# Altium integrated library Microchip Power Management CPU-System Supervisor.IntLib: 428 symbols (part 9 of 12)
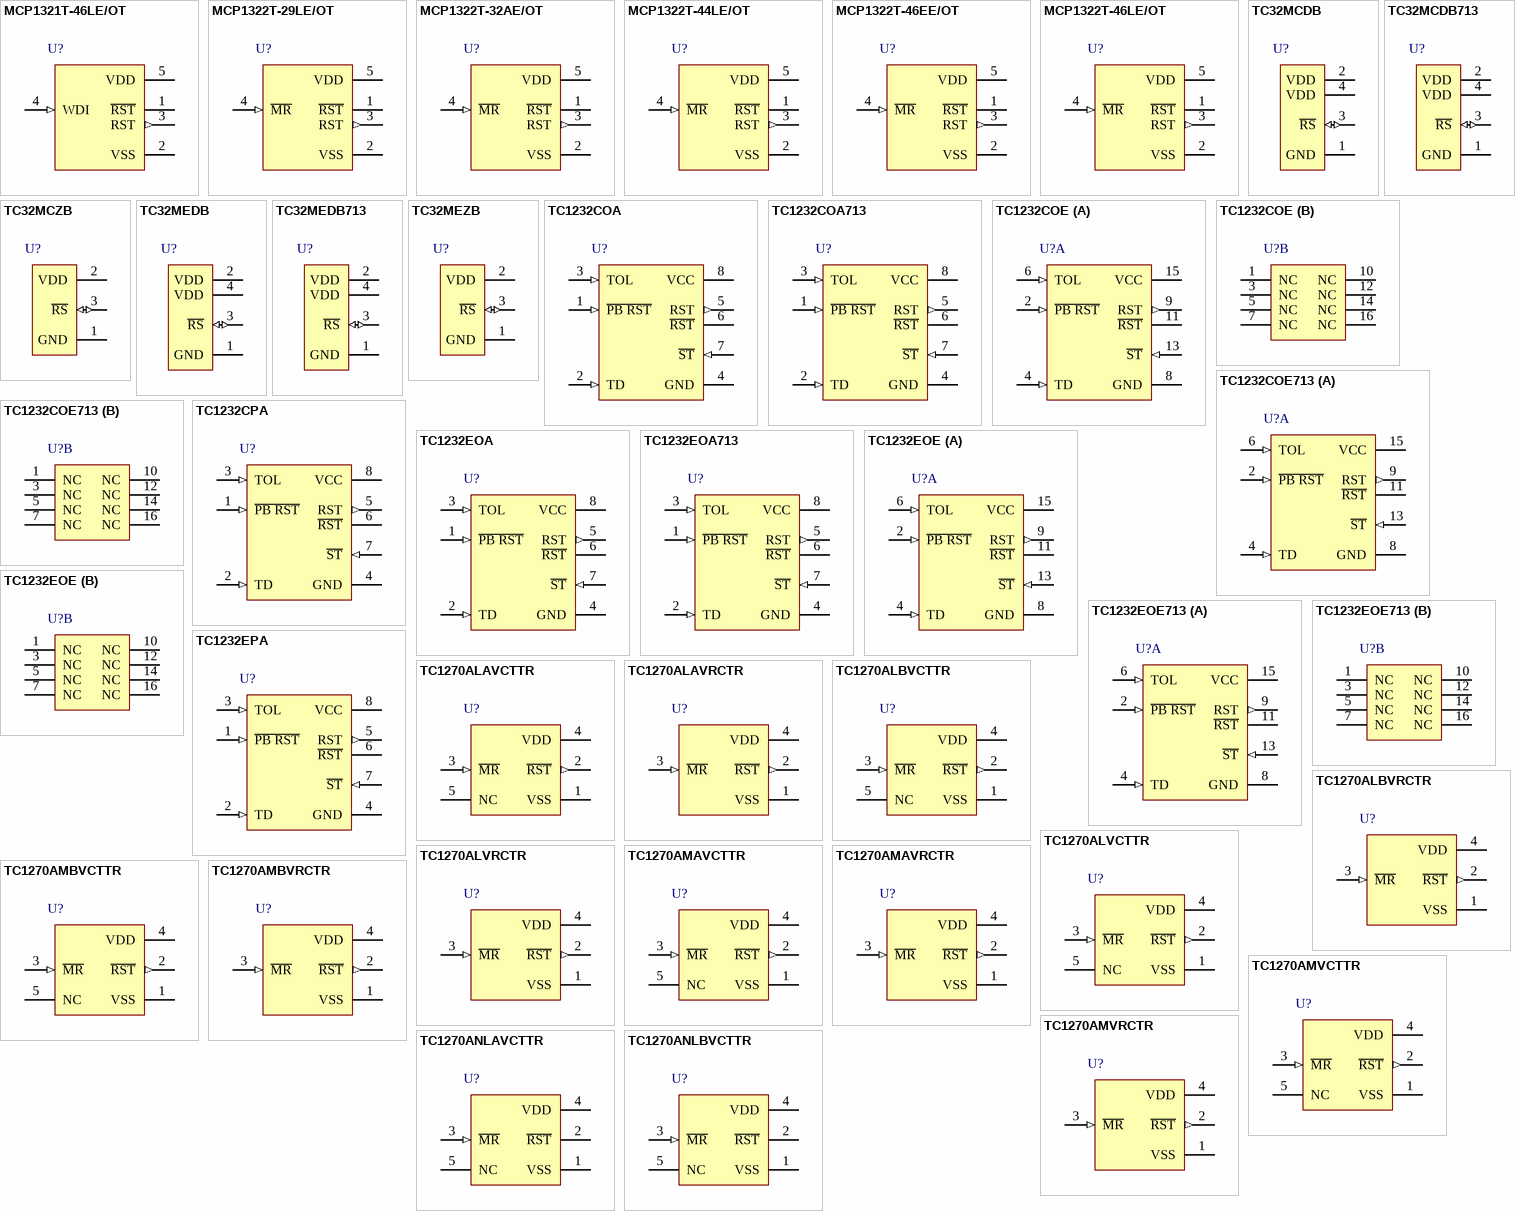
[diagram p18: symbols MCP1321T-46LE/OT to TC1270ANLBVCTTR]

## TC1270ALBVCTTR
designator U?
Voltage Supervisor with Manual Reset Input, 5-Pin SOT-23, VTRIP:4.50V (min.) / 4.63V (typ.) / 4.75V (max.), Tape and Reel; Manufacturer: Microchip; PartNumber: TC1270ALBVCTTR; DatasheetVersion: revB, Jun-2007; PackageVersion: revBB, Aug-2009; PackageReference: SOT-23-CT5; PackageDescription: 5-Lead Plastic Small Outline Transistor (CT) [SOT-23]; Mounting Technology: Surface Mount; Code_IPC: SOT23-5; ComponentLink1Description: Manufacturer URL; ComponentLink1URL: http://www.microchip.com/; ComponentLink2Description: Datasheet; ComponentLink2URL: http://ww1.microchip.com/downloads/en/DeviceDoc/22035b.pdf; ComponentLink3Description: Package Specification; ComponentLink3URL: http://www.microchip.com/stellent/groups/techpub_sg/documents/packagingspec/en012702.pdf
footprint SOT-23-CT5_N (SOT23, 5-Leads, Body 2.9x1.6mm, Pitch 0.95mm, Lead Span 2.7mm, IPC Medium Density)
footprint SOT-23-CT5_L (SOT23, 5-Leads, Body 2.9x1.6mm, Pitch 0.95mm, Lead Span 2.7mm, IPC High Density)
footprint SOT-23-CT5_M (SOT23, 5-Leads, Body 2.9x1.6mm, Pitch 0.95mm, Lead Span 2.7mm, IPC Low Density)
pins: 1 VSS (power), 2 ~{RST} (out), 3 ~{MR} (in), 4 VDD (power), 5 NC

## TC1270ALBVRCTR
designator U?
Voltage Supervisor with Manual Reset Input, 4-Pin SOT-143, VTRIP:4.50V (min.) / 4.63V (typ.) / 4.75V (max.), Tape and Reel; Manufacturer: Microchip; PartNumber: TC1270ALBVRCTR; DatasheetVersion: revB, Jun-2007; PackageVersion: revBB, Aug-2009; PackageReference: SOT-143-RC4; PackageDescription: 4-Lead Plastic Small Outline Transistor (RC) [SOT-143]; Mounting Technology: Surface Mount; Code_IPC: SOT143; ComponentLink1Description: Manufacturer URL; ComponentLink1URL: http://www.microchip.com/; ComponentLink2Description: Datasheet; ComponentLink2URL: http://ww1.microchip.com/downloads/en/DeviceDoc/22035b.pdf; ComponentLink3Description: Package Specification; ComponentLink3URL: http://www.microchip.com/stellent/groups/techpub_sg/documents/packagingspec/en012702.pdf
footprint SOT-143-RC4_N (SOT143, 4-Leads, Body 2.9x1.3mm, Pitch 1.9mm, Lead Span 2.4mm, IPC Medium Density)
footprint SOT-143-RC4_L (SOT143, 4-Leads, Body 2.9x1.3mm, Pitch 1.9mm, Lead Span 2.4mm, IPC High Density)
footprint SOT-143-RC4_M (SOT143, 4-Leads, Body 2.9x1.3mm, Pitch 1.9mm, Lead Span 2.4mm, IPC Low Density)
pins: 1 VSS (power), 2 ~{RST} (out), 3 ~{MR} (in), 4 VDD (power)

## TC1270ALVCTTR
designator U?
Voltage Supervisor with Manual Reset Input, 5-Pin SOT-23, VTRIP:4.50V (min.) / 4.63V (typ.) / 4.75V (max.), Tape and Reel; Manufacturer: Microchip; PartNumber: TC1270ALVCTTR; DatasheetVersion: revB, Jun-2007; PackageVersion: revBB, Aug-2009; PackageReference: SOT-23-CT5; PackageDescription: 5-Lead Plastic Small Outline Transistor (CT) [SOT-23]; Mounting Technology: Surface Mount; Code_IPC: SOT23-5; ComponentLink1Description: Manufacturer URL; ComponentLink1URL: http://www.microchip.com/; ComponentLink2Description: Datasheet; ComponentLink2URL: http://ww1.microchip.com/downloads/en/DeviceDoc/22035b.pdf; ComponentLink3Description: Package Specification; ComponentLink3URL: http://www.microchip.com/stellent/groups/techpub_sg/documents/packagingspec/en012702.pdf
footprint SOT-23-CT5_N (SOT23, 5-Leads, Body 2.9x1.6mm, Pitch 0.95mm, Lead Span 2.7mm, IPC Medium Density)
footprint SOT-23-CT5_L (SOT23, 5-Leads, Body 2.9x1.6mm, Pitch 0.95mm, Lead Span 2.7mm, IPC High Density)
footprint SOT-23-CT5_M (SOT23, 5-Leads, Body 2.9x1.6mm, Pitch 0.95mm, Lead Span 2.7mm, IPC Low Density)
pins: 1 VSS (power), 2 ~{RST} (out), 3 ~{MR} (in), 4 VDD (power), 5 NC

## TC1270ALVRCTR
designator U?
Voltage Supervisor with Manual Reset Input, 4-Pin SOT-143, VTRIP:4.50V (min.) / 4.63V (typ.) / 4.75V (max.), Tape and Reel; Manufacturer: Microchip; PartNumber: TC1270ALVRCTR; DatasheetVersion: revB, Jun-2007; PackageVersion: revBB, Aug-2009; PackageReference: SOT-143-RC4; PackageDescription: 4-Lead Plastic Small Outline Transistor (RC) [SOT-143]; Supplier 1: Digi-Key; Supplier Part Number 1: TC1270ALVRCTR-ND; Supplier 2: Newark; Supplier Part Number 2: 27M0906; Supplier 3: Mouser; Supplier Part Number 3: 579-TC1270ALVRCTR; Mounting Technology: Surface Mount; Code_IPC: SOT143; ComponentLink1Description: Manufacturer URL; ComponentLink1URL: http://www.microchip.com/; ComponentLink2Description: Datasheet; ComponentLink2URL: http://ww1.microchip.com/downloads/en/DeviceDoc/22035b.pdf; ComponentLink3Description: Package Specification; ComponentLink3URL: http://www.microchip.com/stellent/groups/techpub_sg/documents/packagingspec/en012702.pdf
footprint SOT-143-RC4_N (SOT143, 4-Leads, Body 2.9x1.3mm, Pitch 1.9mm, Lead Span 2.4mm, IPC Medium Density)
footprint SOT-143-RC4_L (SOT143, 4-Leads, Body 2.9x1.3mm, Pitch 1.9mm, Lead Span 2.4mm, IPC High Density)
footprint SOT-143-RC4_M (SOT143, 4-Leads, Body 2.9x1.3mm, Pitch 1.9mm, Lead Span 2.4mm, IPC Low Density)
pins: 1 VSS (power), 2 ~{RST} (out), 3 ~{MR} (in), 4 VDD (power)

## TC1270AMAVCTTR
designator U?
Voltage Supervisor with Manual Reset Input, 5-Pin SOT-23, VTRIP:4.25V (min.) / 4.38V (typ.) / 4.50V (max.), Tape and Reel; Manufacturer: Microchip; PartNumber: TC1270AMAVCTTR; DatasheetVersion: revB, Jun-2007; PackageVersion: revBB, Aug-2009; PackageReference: SOT-23-CT5; PackageDescription: 5-Lead Plastic Small Outline Transistor (CT) [SOT-23]; Mounting Technology: Surface Mount; Code_IPC: SOT23-5; ComponentLink1Description: Manufacturer URL; ComponentLink1URL: http://www.microchip.com/; ComponentLink2Description: Datasheet; ComponentLink2URL: http://ww1.microchip.com/downloads/en/DeviceDoc/22035b.pdf; ComponentLink3Description: Package Specification; ComponentLink3URL: http://www.microchip.com/stellent/groups/techpub_sg/documents/packagingspec/en012702.pdf
footprint SOT-23-CT5_N (SOT23, 5-Leads, Body 2.9x1.6mm, Pitch 0.95mm, Lead Span 2.7mm, IPC Medium Density)
footprint SOT-23-CT5_L (SOT23, 5-Leads, Body 2.9x1.6mm, Pitch 0.95mm, Lead Span 2.7mm, IPC High Density)
footprint SOT-23-CT5_M (SOT23, 5-Leads, Body 2.9x1.6mm, Pitch 0.95mm, Lead Span 2.7mm, IPC Low Density)
pins: 1 VSS (power), 2 ~{RST} (out), 3 ~{MR} (in), 4 VDD (power), 5 NC

## TC1270AMAVRCTR
designator U?
Voltage Supervisor with Manual Reset Input, 4-Pin SOT-143, VTRIP:4.25V (min.) / 4.38V (typ.) / 4.50V (max.), Tape and Reel; Manufacturer: Microchip; PartNumber: TC1270AMAVRCTR; DatasheetVersion: revB, Jun-2007; PackageVersion: revBB, Aug-2009; PackageReference: SOT-143-RC4; PackageDescription: 4-Lead Plastic Small Outline Transistor (RC) [SOT-143]; Mounting Technology: Surface Mount; Code_IPC: SOT143; ComponentLink1Description: Manufacturer URL; ComponentLink1URL: http://www.microchip.com/; ComponentLink2Description: Datasheet; ComponentLink2URL: http://ww1.microchip.com/downloads/en/DeviceDoc/22035b.pdf; ComponentLink3Description: Package Specification; ComponentLink3URL: http://www.microchip.com/stellent/groups/techpub_sg/documents/packagingspec/en012702.pdf
footprint SOT-143-RC4_N (SOT143, 4-Leads, Body 2.9x1.3mm, Pitch 1.9mm, Lead Span 2.4mm, IPC Medium Density)
footprint SOT-143-RC4_L (SOT143, 4-Leads, Body 2.9x1.3mm, Pitch 1.9mm, Lead Span 2.4mm, IPC High Density)
footprint SOT-143-RC4_M (SOT143, 4-Leads, Body 2.9x1.3mm, Pitch 1.9mm, Lead Span 2.4mm, IPC Low Density)
pins: 1 VSS (power), 2 ~{RST} (out), 3 ~{MR} (in), 4 VDD (power)

## TC1270AMBVCTTR
designator U?
Voltage Supervisor with Manual Reset Input, 5-Pin SOT-23, VTRIP:4.25V (min.) / 4.38V (typ.) / 4.50V (max.), Tape and Reel; Manufacturer: Microchip; PartNumber: TC1270AMBVCTTR; DatasheetVersion: revB, Jun-2007; PackageVersion: revBB, Aug-2009; PackageReference: SOT-23-CT5; PackageDescription: 5-Lead Plastic Small Outline Transistor (CT) [SOT-23]; Mounting Technology: Surface Mount; Code_IPC: SOT23-5; ComponentLink1Description: Manufacturer URL; ComponentLink1URL: http://www.microchip.com/; ComponentLink2Description: Datasheet; ComponentLink2URL: http://ww1.microchip.com/downloads/en/DeviceDoc/22035b.pdf; ComponentLink3Description: Package Specification; ComponentLink3URL: http://www.microchip.com/stellent/groups/techpub_sg/documents/packagingspec/en012702.pdf
footprint SOT-23-CT5_N (SOT23, 5-Leads, Body 2.9x1.6mm, Pitch 0.95mm, Lead Span 2.7mm, IPC Medium Density)
footprint SOT-23-CT5_L (SOT23, 5-Leads, Body 2.9x1.6mm, Pitch 0.95mm, Lead Span 2.7mm, IPC High Density)
footprint SOT-23-CT5_M (SOT23, 5-Leads, Body 2.9x1.6mm, Pitch 0.95mm, Lead Span 2.7mm, IPC Low Density)
pins: 1 VSS (power), 2 ~{RST} (out), 3 ~{MR} (in), 4 VDD (power), 5 NC

## TC1270AMBVRCTR
designator U?
Voltage Supervisor with Manual Reset Input, 4-Pin SOT-143, VTRIP:4.25V (min.) / 4.38V (typ.) / 4.50V (max.), Tape and Reel; Manufacturer: Microchip; PartNumber: TC1270AMBVRCTR; DatasheetVersion: revB, Jun-2007; PackageVersion: revBB, Aug-2009; PackageReference: SOT-143-RC4; PackageDescription: 4-Lead Plastic Small Outline Transistor (RC) [SOT-143]; Mounting Technology: Surface Mount; Code_IPC: SOT143; ComponentLink1Description: Manufacturer URL; ComponentLink1URL: http://www.microchip.com/; ComponentLink2Description: Datasheet; ComponentLink2URL: http://ww1.microchip.com/downloads/en/DeviceDoc/22035b.pdf; ComponentLink3Description: Package Specification; ComponentLink3URL: http://www.microchip.com/stellent/groups/techpub_sg/documents/packagingspec/en012702.pdf
footprint SOT-143-RC4_N (SOT143, 4-Leads, Body 2.9x1.3mm, Pitch 1.9mm, Lead Span 2.4mm, IPC Medium Density)
footprint SOT-143-RC4_L (SOT143, 4-Leads, Body 2.9x1.3mm, Pitch 1.9mm, Lead Span 2.4mm, IPC High Density)
footprint SOT-143-RC4_M (SOT143, 4-Leads, Body 2.9x1.3mm, Pitch 1.9mm, Lead Span 2.4mm, IPC Low Density)
pins: 1 VSS (power), 2 ~{RST} (out), 3 ~{MR} (in), 4 VDD (power)

## TC1270AMVCTTR
designator U?
Voltage Supervisor with Manual Reset Input, 5-Pin SOT-23, VTRIP:4.25V (min.) / 4.38V (typ.) / 4.50V (max.), Tape and Reel; Manufacturer: Microchip; PartNumber: TC1270AMVCTTR; DatasheetVersion: revB, Jun-2007; PackageVersion: revBB, Aug-2009; PackageReference: SOT-23-CT5; PackageDescription: 5-Lead Plastic Small Outline Transistor (CT) [SOT-23]; Supplier 1: Digi-Key; Supplier Part Number 1: TC1270AMVCTTR-ND; Supplier 2: Mouser; Supplier Part Number 2: 579-TC1270AMVCTTR; Mounting Technology: Surface Mount; Code_IPC: SOT23-5; ComponentLink1Description: Manufacturer URL; ComponentLink1URL: http://www.microchip.com/; ComponentLink2Description: Datasheet; ComponentLink2URL: http://ww1.microchip.com/downloads/en/DeviceDoc/22035b.pdf; ComponentLink3Description: Package Specification; ComponentLink3URL: http://www.microchip.com/stellent/groups/techpub_sg/documents/packagingspec/en012702.pdf
footprint SOT-23-CT5_N (SOT23, 5-Leads, Body 2.9x1.6mm, Pitch 0.95mm, Lead Span 2.7mm, IPC Medium Density)
footprint SOT-23-CT5_L (SOT23, 5-Leads, Body 2.9x1.6mm, Pitch 0.95mm, Lead Span 2.7mm, IPC High Density)
footprint SOT-23-CT5_M (SOT23, 5-Leads, Body 2.9x1.6mm, Pitch 0.95mm, Lead Span 2.7mm, IPC Low Density)
pins: 1 VSS (power), 2 ~{RST} (out), 3 ~{MR} (in), 4 VDD (power), 5 NC

## TC1270AMVRCTR
designator U?
Voltage Supervisor with Manual Reset Input, 4-Pin SOT-143, VTRIP:4.25V (min.) / 4.38V (typ.) / 4.50V (max.), Tape and Reel; Manufacturer: Microchip; PartNumber: TC1270AMVRCTR; DatasheetVersion: revB, Jun-2007; PackageVersion: revBB, Aug-2009; PackageReference: SOT-143-RC4; PackageDescription: 4-Lead Plastic Small Outline Transistor (RC) [SOT-143]; Supplier 1: Digi-Key; Supplier Part Number 1: TC1270AMVRCTR-ND; Supplier 2: Mouser; Supplier Part Number 2: 579-TC1270AMVRCTR; Mounting Technology: Surface Mount; Code_IPC: SOT143; ComponentLink1Description: Manufacturer URL; ComponentLink1URL: http://www.microchip.com/; ComponentLink2Description: Datasheet; ComponentLink2URL: http://ww1.microchip.com/downloads/en/DeviceDoc/22035b.pdf; ComponentLink3Description: Package Specification; ComponentLink3URL: http://www.microchip.com/stellent/groups/techpub_sg/documents/packagingspec/en012702.pdf
footprint SOT-143-RC4_N (SOT143, 4-Leads, Body 2.9x1.3mm, Pitch 1.9mm, Lead Span 2.4mm, IPC Medium Density)
footprint SOT-143-RC4_L (SOT143, 4-Leads, Body 2.9x1.3mm, Pitch 1.9mm, Lead Span 2.4mm, IPC High Density)
footprint SOT-143-RC4_M (SOT143, 4-Leads, Body 2.9x1.3mm, Pitch 1.9mm, Lead Span 2.4mm, IPC Low Density)
pins: 1 VSS (power), 2 ~{RST} (out), 3 ~{MR} (in), 4 VDD (power)

## TC1270ANLAVCTTR
designator U?
Voltage Supervisor with Manual Reset Input, 5-Pin SOT-23, VTRIP:4.50V (min.) / 4.63V (typ.) / 4.75V (max.), Tape and Reel; Manufacturer: Microchip; PartNumber: TC1270ANLAVCTTR; DatasheetVersion: revB, Jun-2007; PackageVersion: revBB, Aug-2009; PackageReference: SOT-23-CT5; PackageDescription: 5-Lead Plastic Small Outline Transistor (CT) [SOT-23]; Mounting Technology: Surface Mount; Code_IPC: SOT23-5; ComponentLink1Description: Manufacturer URL; ComponentLink1URL: http://www.microchip.com/; ComponentLink2Description: Datasheet; ComponentLink2URL: http://ww1.microchip.com/downloads/en/DeviceDoc/22035b.pdf; ComponentLink3Description: Package Specification; ComponentLink3URL: http://www.microchip.com/stellent/groups/techpub_sg/documents/packagingspec/en012702.pdf
footprint SOT-23-CT5_N (SOT23, 5-Leads, Body 2.9x1.6mm, Pitch 0.95mm, Lead Span 2.7mm, IPC Medium Density)
footprint SOT-23-CT5_L (SOT23, 5-Leads, Body 2.9x1.6mm, Pitch 0.95mm, Lead Span 2.7mm, IPC High Density)
footprint SOT-23-CT5_M (SOT23, 5-Leads, Body 2.9x1.6mm, Pitch 0.95mm, Lead Span 2.7mm, IPC Low Density)
pins: 1 VSS (power), 2 ~{RST} (oc), 3 ~{MR} (in), 4 VDD (power), 5 NC

## TC1270ANLBVCTTR
designator U?
Voltage Supervisor with Manual Reset Input, 5-Pin SOT-23, VTRIP:4.50V (min.) / 4.63V (typ.) / 4.75V (max.), Tape and Reel; Manufacturer: Microchip; PartNumber: TC1270ANLBVCTTR; DatasheetVersion: revB, Jun-2007; PackageVersion: revBB, Aug-2009; PackageReference: SOT-23-CT5; PackageDescription: 5-Lead Plastic Small Outline Transistor (CT) [SOT-23]; Mounting Technology: Surface Mount; Code_IPC: SOT23-5; ComponentLink1Description: Manufacturer URL; ComponentLink1URL: http://www.microchip.com/; ComponentLink2Description: Datasheet; ComponentLink2URL: http://ww1.microchip.com/downloads/en/DeviceDoc/22035b.pdf; ComponentLink3Description: Package Specification; ComponentLink3URL: http://www.microchip.com/stellent/groups/techpub_sg/documents/packagingspec/en012702.pdf
footprint SOT-23-CT5_N (SOT23, 5-Leads, Body 2.9x1.6mm, Pitch 0.95mm, Lead Span 2.7mm, IPC Medium Density)
footprint SOT-23-CT5_L (SOT23, 5-Leads, Body 2.9x1.6mm, Pitch 0.95mm, Lead Span 2.7mm, IPC High Density)
footprint SOT-23-CT5_M (SOT23, 5-Leads, Body 2.9x1.6mm, Pitch 0.95mm, Lead Span 2.7mm, IPC Low Density)
pins: 1 VSS (power), 2 ~{RST} (oc), 3 ~{MR} (in), 4 VDD (power), 5 NC

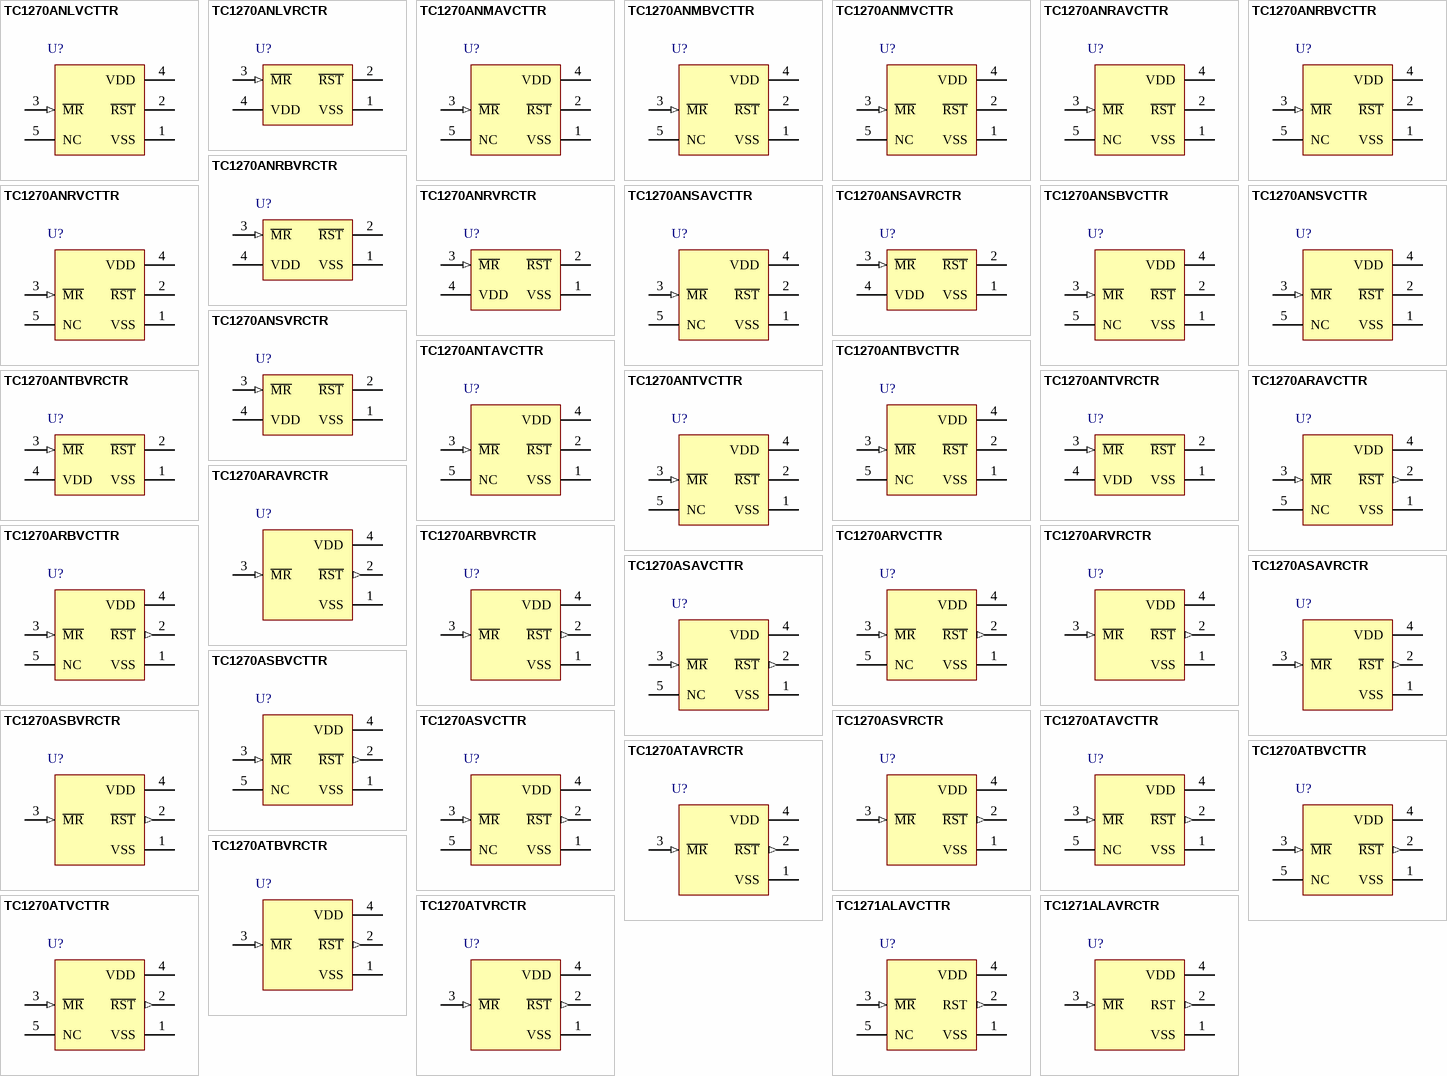
[diagram p8: symbols TC1270ANLVCTTR to TC1271ALAVRCTR]

## TC1270ANLVCTTR
designator U?
Voltage Supervisor with Manual Reset Input, 5-Pin SOT-23, VTRIP:4.50V (min.) / 4.63V (typ.) / 4.75V (max.), Tape and Reel; Manufacturer: Microchip; PartNumber: TC1270ANLVCTTR; DatasheetVersion: revB, Jun-2007; PackageVersion: revBB, Aug-2009; PackageReference: SOT-23-CT5; PackageDescription: 5-Lead Plastic Small Outline Transistor (CT) [SOT-23]; Supplier 1: Digi-Key; Supplier Part Number 1: TC1270ANLVCTTR-ND; Supplier 2: Mouser; Supplier Part Number 2: 579-TC1270ANLVCTTR; Mounting Technology: Surface Mount; Code_IPC: SOT23-5; ComponentLink1Description: Manufacturer URL; ComponentLink1URL: http://www.microchip.com/; ComponentLink2Description: Datasheet; ComponentLink2URL: http://ww1.microchip.com/downloads/en/DeviceDoc/22035b.pdf; ComponentLink3Description: Package Specification; ComponentLink3URL: http://www.microchip.com/stellent/groups/techpub_sg/documents/packagingspec/en012702.pdf
footprint SOT-23-CT5_N (SOT23, 5-Leads, Body 2.9x1.6mm, Pitch 0.95mm, Lead Span 2.7mm, IPC Medium Density)
footprint SOT-23-CT5_L (SOT23, 5-Leads, Body 2.9x1.6mm, Pitch 0.95mm, Lead Span 2.7mm, IPC High Density)
footprint SOT-23-CT5_M (SOT23, 5-Leads, Body 2.9x1.6mm, Pitch 0.95mm, Lead Span 2.7mm, IPC Low Density)
pins: 1 VSS (power), 2 ~{RST} (oc), 3 ~{MR} (in), 4 VDD (power), 5 NC

## TC1270ANLVRCTR
designator U?
Voltage Supervisor with Manual Reset Input, 7 uA Supply Current, Open-Drain Output, 1 to 5.5 V, -40 to 125 degC, 4-pin SOT-143 (RC4), Tape and Reel; Manufacturer: Microchip; PartNumber: TC1270ANLVRCTR; DatasheetVersion: Rev. D; PackageVersion: C04-031B; PackageReference: SOT-143-RC4; PackageDescription: 4-Lead Plastic Small Outline Transistor, 2.86 x 1.3 mm Body, 1.92 mm Pitch; Supplier 1: Digi-Key; Supplier Part Number 1: TC1270ANLVRCTR-ND; Supplier 2: Mouser; Supplier Part Number 2: 579-TC1270ANLVRCTR; Mounting Technology: Surface Mount; ComponentLink1Description: Manufacturer URL; ComponentLink1URL: http://www.microchip.com; ComponentLink2Description: Datasheet; ComponentLink2URL: http://ww1.microchip.com/downloads/en/DeviceDoc/22035D.pdf; ComponentLink3Description: Package Specification; ComponentLink3URL: http://www.microchip.com/stellent/groups/techpub_sg/documents/packagingspec/en012702.pdf; ComponentLink4Description: Product URL; ComponentLink4URL: http://www.microchip.com/TC1270AN
footprint MCHP-SOT-143-RC4_N (SOT143, 4-Leads, Body 2.86x1.3mm, Pitch 1.92mm, IPC Medium Density)
footprint MCHP-SOT-143-RC4_L (SOT143, 4-Leads, Body 2.86x1.3mm, Pitch 1.92mm, IPC High Density)
footprint MCHP-SOT-143-RC4_M (SOT143, 4-Leads, Body 2.86x1.3mm, Pitch 1.92mm, IPC Low Density)
pins: 1 VSS (power) "Ground", 2 ~{RST} (oc) "Reset output (Open-Drain), active-low. Float = VDD > VTRIP, Reset pin is inactive (after Reset Delay Timer completes). L = VDD < VTRIP, Reset pin is active. Goes active (Low) if one of these conditions occurs: 1. If VDD (See Datasheet)", 3 ~{MR} (in) "Manual Reset Input Pin This input allows a push button switch to be directly connected to a TC1270AN device’s M\R\ pin, which can be used to force a system Reset. The input filter ignores noise pulses that occur on the M\R\ (See Datasheet)", 4 VDD (power) "Supply Voltage"

## TC1270ANMAVCTTR
designator U?
Voltage Supervisor with Manual Reset Input, 5-Pin SOT-23, VTRIP:4.25V (min.) / 4.38V (typ.) / 4.50V (max.), Tape and Reel; Manufacturer: Microchip; PartNumber: TC1270ANMAVCTTR; DatasheetVersion: revB, Jun-2007; PackageVersion: revBB, Aug-2009; PackageReference: SOT-23-CT5; PackageDescription: 5-Lead Plastic Small Outline Transistor (CT) [SOT-23]; Mounting Technology: Surface Mount; Code_IPC: SOT23-5; ComponentLink1Description: Manufacturer URL; ComponentLink1URL: http://www.microchip.com/; ComponentLink2Description: Datasheet; ComponentLink2URL: http://ww1.microchip.com/downloads/en/DeviceDoc/22035b.pdf; ComponentLink3Description: Package Specification; ComponentLink3URL: http://www.microchip.com/stellent/groups/techpub_sg/documents/packagingspec/en012702.pdf
footprint SOT-23-CT5_N (SOT23, 5-Leads, Body 2.9x1.6mm, Pitch 0.95mm, Lead Span 2.7mm, IPC Medium Density)
footprint SOT-23-CT5_L (SOT23, 5-Leads, Body 2.9x1.6mm, Pitch 0.95mm, Lead Span 2.7mm, IPC High Density)
footprint SOT-23-CT5_M (SOT23, 5-Leads, Body 2.9x1.6mm, Pitch 0.95mm, Lead Span 2.7mm, IPC Low Density)
pins: 1 VSS (power), 2 ~{RST} (oc), 3 ~{MR} (in), 4 VDD (power), 5 NC

## TC1270ANMBVCTTR
designator U?
Voltage Supervisor with Manual Reset Input, 5-Pin SOT-23, VTRIP:4.25V (min.) / 4.38V (typ.) / 4.50V (max.), Tape and Reel; Manufacturer: Microchip; PartNumber: TC1270ANMBVCTTR; DatasheetVersion: revB, Jun-2007; PackageVersion: revBB, Aug-2009; PackageReference: SOT-23-CT5; PackageDescription: 5-Lead Plastic Small Outline Transistor (CT) [SOT-23]; Mounting Technology: Surface Mount; Code_IPC: SOT23-5; ComponentLink1Description: Manufacturer URL; ComponentLink1URL: http://www.microchip.com/; ComponentLink2Description: Datasheet; ComponentLink2URL: http://ww1.microchip.com/downloads/en/DeviceDoc/22035b.pdf; ComponentLink3Description: Package Specification; ComponentLink3URL: http://www.microchip.com/stellent/groups/techpub_sg/documents/packagingspec/en012702.pdf
footprint SOT-23-CT5_N (SOT23, 5-Leads, Body 2.9x1.6mm, Pitch 0.95mm, Lead Span 2.7mm, IPC Medium Density)
footprint SOT-23-CT5_L (SOT23, 5-Leads, Body 2.9x1.6mm, Pitch 0.95mm, Lead Span 2.7mm, IPC High Density)
footprint SOT-23-CT5_M (SOT23, 5-Leads, Body 2.9x1.6mm, Pitch 0.95mm, Lead Span 2.7mm, IPC Low Density)
pins: 1 VSS (power), 2 ~{RST} (oc), 3 ~{MR} (in), 4 VDD (power), 5 NC

## TC1270ANMVCTTR
designator U?
Voltage Supervisor with Manual Reset Input, 5-Pin SOT-23, VTRIP:4.25V (min.) / 4.38V (typ.) / 4.50V (max.), Tape and Reel; Manufacturer: Microchip; PartNumber: TC1270ANMVCTTR; DatasheetVersion: revB, Jun-2007; PackageVersion: revBB, Aug-2009; PackageReference: SOT-23-CT5; PackageDescription: 5-Lead Plastic Small Outline Transistor (CT) [SOT-23]; Supplier 1: Digi-Key; Supplier Part Number 1: TC1270ANMVCTTR-ND; Supplier 2: Mouser; Supplier Part Number 2: 579-TC1270ANMVCTTR; Mounting Technology: Surface Mount; Code_IPC: SOT23-5; ComponentLink1Description: Manufacturer URL; ComponentLink1URL: http://www.microchip.com/; ComponentLink2Description: Datasheet; ComponentLink2URL: http://ww1.microchip.com/downloads/en/DeviceDoc/22035b.pdf; ComponentLink3Description: Package Specification; ComponentLink3URL: http://www.microchip.com/stellent/groups/techpub_sg/documents/packagingspec/en012702.pdf
footprint SOT-23-CT5_N (SOT23, 5-Leads, Body 2.9x1.6mm, Pitch 0.95mm, Lead Span 2.7mm, IPC Medium Density)
footprint SOT-23-CT5_L (SOT23, 5-Leads, Body 2.9x1.6mm, Pitch 0.95mm, Lead Span 2.7mm, IPC High Density)
footprint SOT-23-CT5_M (SOT23, 5-Leads, Body 2.9x1.6mm, Pitch 0.95mm, Lead Span 2.7mm, IPC Low Density)
pins: 1 VSS (power), 2 ~{RST} (oc), 3 ~{MR} (in), 4 VDD (power), 5 NC

## TC1270ANRAVCTTR
designator U?
Voltage Supervisor with Manual Reset Input, 5-Pin SOT-23, VTRIP:2.55V (min.) / 2.63V (typ.) / 2.70V (max.), Tape and Reel; Manufacturer: Microchip; PartNumber: TC1270ANRAVCTTR; DatasheetVersion: revB, Jun-2007; PackageVersion: revBB, Aug-2009; PackageReference: SOT-23-CT5; PackageDescription: 5-Lead Plastic Small Outline Transistor (CT) [SOT-23]; Mounting Technology: Surface Mount; Code_IPC: SOT23-5; ComponentLink1Description: Manufacturer URL; ComponentLink1URL: http://www.microchip.com/; ComponentLink2Description: Datasheet; ComponentLink2URL: http://ww1.microchip.com/downloads/en/DeviceDoc/22035b.pdf; ComponentLink3Description: Package Specification; ComponentLink3URL: http://www.microchip.com/stellent/groups/techpub_sg/documents/packagingspec/en012702.pdf
footprint SOT-23-CT5_N (SOT23, 5-Leads, Body 2.9x1.6mm, Pitch 0.95mm, Lead Span 2.7mm, IPC Medium Density)
footprint SOT-23-CT5_L (SOT23, 5-Leads, Body 2.9x1.6mm, Pitch 0.95mm, Lead Span 2.7mm, IPC High Density)
footprint SOT-23-CT5_M (SOT23, 5-Leads, Body 2.9x1.6mm, Pitch 0.95mm, Lead Span 2.7mm, IPC Low Density)
pins: 1 VSS (power), 2 ~{RST} (oc), 3 ~{MR} (in), 4 VDD (power), 5 NC

## TC1270ANRBVCTTR
designator U?
Voltage Supervisor with Manual Reset Input, 5-Pin SOT-23, VTRIP:2.55V (min.) / 2.63V (typ.) / 2.70V (max.), Tape and Reel; Manufacturer: Microchip; PartNumber: TC1270ANRBVCTTR; DatasheetVersion: revB, Jun-2007; PackageVersion: revBB, Aug-2009; PackageReference: SOT-23-CT5; PackageDescription: 5-Lead Plastic Small Outline Transistor (CT) [SOT-23]; Mounting Technology: Surface Mount; Code_IPC: SOT23-5; ComponentLink1Description: Manufacturer URL; ComponentLink1URL: http://www.microchip.com/; ComponentLink2Description: Datasheet; ComponentLink2URL: http://ww1.microchip.com/downloads/en/DeviceDoc/22035b.pdf; ComponentLink3Description: Package Specification; ComponentLink3URL: http://www.microchip.com/stellent/groups/techpub_sg/documents/packagingspec/en012702.pdf
footprint SOT-23-CT5_N (SOT23, 5-Leads, Body 2.9x1.6mm, Pitch 0.95mm, Lead Span 2.7mm, IPC Medium Density)
footprint SOT-23-CT5_L (SOT23, 5-Leads, Body 2.9x1.6mm, Pitch 0.95mm, Lead Span 2.7mm, IPC High Density)
footprint SOT-23-CT5_M (SOT23, 5-Leads, Body 2.9x1.6mm, Pitch 0.95mm, Lead Span 2.7mm, IPC Low Density)
pins: 1 VSS (power), 2 ~{RST} (oc), 3 ~{MR} (in), 4 VDD (power), 5 NC

## TC1270ANRBVRCTR
designator U?
Voltage Supervisor with Manual Reset Input, 7 uA Supply Current, Open-Drain Output, 1 to 5.5 V, -40 to 125 degC, 4-pin SOT-143 (RC4), Tape and Reel; Manufacturer: Microchip; PartNumber: TC1270ANRBVRCTR; DatasheetVersion: Rev. D; PackageVersion: C04-031B; PackageReference: SOT-143-RC4; PackageDescription: 4-Lead Plastic Small Outline Transistor, 2.86 x 1.3 mm Body, 1.92 mm Pitch; Mounting Technology: Surface Mount; ComponentLink1Description: Manufacturer URL; ComponentLink1URL: http://www.microchip.com; ComponentLink2Description: Datasheet; ComponentLink2URL: http://ww1.microchip.com/downloads/en/DeviceDoc/22035D.pdf; ComponentLink3Description: Package Specification; ComponentLink3URL: http://www.microchip.com/stellent/groups/techpub_sg/documents/packagingspec/en012702.pdf; ComponentLink4Description: Product URL; ComponentLink4URL: http://www.microchip.com/TC1270AN
footprint MCHP-SOT-143-RC4_N (SOT143, 4-Leads, Body 2.86x1.3mm, Pitch 1.92mm, IPC Medium Density)
footprint MCHP-SOT-143-RC4_L (SOT143, 4-Leads, Body 2.86x1.3mm, Pitch 1.92mm, IPC High Density)
footprint MCHP-SOT-143-RC4_M (SOT143, 4-Leads, Body 2.86x1.3mm, Pitch 1.92mm, IPC Low Density)
pins: 1 VSS (power) "Ground", 2 ~{RST} (oc) "Reset output (Open-Drain), active-low. Float = VDD > VTRIP, Reset pin is inactive (after Reset Delay Timer completes). L = VDD < VTRIP, Reset pin is active. Goes active (Low) if one of these conditions occurs: 1. If VDD (See Datasheet)", 3 ~{MR} (in) "Manual Reset Input Pin This input allows a push button switch to be directly connected to a TC1270AN device’s M\R\ pin, which can be used to force a system Reset. The input filter ignores noise pulses that occur on the M\R\ (See Datasheet)", 4 VDD (power) "Supply Voltage"

## TC1270ANRVCTTR
designator U?
Voltage Supervisor with Manual Reset Input, 5-Pin SOT-23, VTRIP:2.55V (min.) / 2.63V (typ.) / 2.70V (max.), Tape and Reel; Manufacturer: Microchip; PartNumber: TC1270ANRVCTTR; DatasheetVersion: revB, Jun-2007; PackageVersion: revBB, Aug-2009; PackageReference: SOT-23-CT5; PackageDescription: 5-Lead Plastic Small Outline Transistor (CT) [SOT-23]; Supplier 1: Digi-Key; Supplier Part Number 1: TC1270ANRVCTTR-ND; Supplier 2: Mouser; Supplier Part Number 2: 579-TC1270ANRVCTTR; Mounting Technology: Surface Mount; Code_IPC: SOT23-5; ComponentLink1Description: Manufacturer URL; ComponentLink1URL: http://www.microchip.com/; ComponentLink2Description: Datasheet; ComponentLink2URL: http://ww1.microchip.com/downloads/en/DeviceDoc/22035b.pdf; ComponentLink3Description: Package Specification; ComponentLink3URL: http://www.microchip.com/stellent/groups/techpub_sg/documents/packagingspec/en012702.pdf
footprint SOT-23-CT5_N (SOT23, 5-Leads, Body 2.9x1.6mm, Pitch 0.95mm, Lead Span 2.7mm, IPC Medium Density)
footprint SOT-23-CT5_L (SOT23, 5-Leads, Body 2.9x1.6mm, Pitch 0.95mm, Lead Span 2.7mm, IPC High Density)
footprint SOT-23-CT5_M (SOT23, 5-Leads, Body 2.9x1.6mm, Pitch 0.95mm, Lead Span 2.7mm, IPC Low Density)
pins: 1 VSS (power), 2 ~{RST} (oc), 3 ~{MR} (in), 4 VDD (power), 5 NC

## TC1270ANRVRCTR
designator U?
Voltage Supervisor with Manual Reset Input, 7 uA Supply Current, Open-Drain Output, 1 to 5.5 V, -40 to 125 degC, 4-pin SOT-143 (RC4), Tape and Reel; Manufacturer: Microchip; PartNumber: TC1270ANRVRCTR; DatasheetVersion: Rev. D; PackageVersion: C04-031B; PackageReference: SOT-143-RC4; PackageDescription: 4-Lead Plastic Small Outline Transistor, 2.86 x 1.3 mm Body, 1.92 mm Pitch; Supplier 1: Digi-Key; Supplier Part Number 1: TC1270ANRVRCTR-ND; Supplier 2: Mouser; Supplier Part Number 2: 579-TC1270ANRVRCTR; Mounting Technology: Surface Mount; ComponentLink1Description: Manufacturer URL; ComponentLink1URL: http://www.microchip.com; ComponentLink2Description: Datasheet; ComponentLink2URL: http://ww1.microchip.com/downloads/en/DeviceDoc/22035D.pdf; ComponentLink3Description: Package Specification; ComponentLink3URL: http://www.microchip.com/stellent/groups/techpub_sg/documents/packagingspec/en012702.pdf; ComponentLink4Description: Product URL; ComponentLink4URL: http://www.microchip.com/TC1270AN
footprint MCHP-SOT-143-RC4_N (SOT143, 4-Leads, Body 2.86x1.3mm, Pitch 1.92mm, IPC Medium Density)
footprint MCHP-SOT-143-RC4_L (SOT143, 4-Leads, Body 2.86x1.3mm, Pitch 1.92mm, IPC High Density)
footprint MCHP-SOT-143-RC4_M (SOT143, 4-Leads, Body 2.86x1.3mm, Pitch 1.92mm, IPC Low Density)
pins: 1 VSS (power) "Ground", 2 ~{RST} (oc) "Reset output (Open-Drain), active-low. Float = VDD > VTRIP, Reset pin is inactive (after Reset Delay Timer completes). L = VDD < VTRIP, Reset pin is active. Goes active (Low) if one of these conditions occurs: 1. If VDD (See Datasheet)", 3 ~{MR} (in) "Manual Reset Input Pin This input allows a push button switch to be directly connected to a TC1270AN device’s M\R\ pin, which can be used to force a system Reset. The input filter ignores noise pulses that occur on the M\R\ (See Datasheet)", 4 VDD (power) "Supply Voltage"

## TC1270ANSAVCTTR
designator U?
Voltage Supervisor with Manual Reset Input, 5-Pin SOT-23, VTRIP:2.85V (min.) / 2.93V (typ.) / 3.00V (max.), Tape and Reel; Manufacturer: Microchip; PartNumber: TC1270ANSAVCTTR; DatasheetVersion: revB, Jun-2007; PackageVersion: revBB, Aug-2009; PackageReference: SOT-23-CT5; PackageDescription: 5-Lead Plastic Small Outline Transistor (CT) [SOT-23]; Mounting Technology: Surface Mount; Code_IPC: SOT23-5; ComponentLink1Description: Manufacturer URL; ComponentLink1URL: http://www.microchip.com/; ComponentLink2Description: Datasheet; ComponentLink2URL: http://ww1.microchip.com/downloads/en/DeviceDoc/22035b.pdf; ComponentLink3Description: Package Specification; ComponentLink3URL: http://www.microchip.com/stellent/groups/techpub_sg/documents/packagingspec/en012702.pdf
footprint SOT-23-CT5_N (SOT23, 5-Leads, Body 2.9x1.6mm, Pitch 0.95mm, Lead Span 2.7mm, IPC Medium Density)
footprint SOT-23-CT5_L (SOT23, 5-Leads, Body 2.9x1.6mm, Pitch 0.95mm, Lead Span 2.7mm, IPC High Density)
footprint SOT-23-CT5_M (SOT23, 5-Leads, Body 2.9x1.6mm, Pitch 0.95mm, Lead Span 2.7mm, IPC Low Density)
pins: 1 VSS (power), 2 ~{RST} (oc), 3 ~{MR} (in), 4 VDD (power), 5 NC

## TC1270ANSAVRCTR
designator U?
Voltage Supervisor with Manual Reset Input, 7 uA Supply Current, Open-Drain Output, 1 to 5.5 V, -40 to 125 degC, 4-pin SOT-143 (RC4), Tape and Reel; Manufacturer: Microchip; PartNumber: TC1270ANSAVRCTR; DatasheetVersion: Rev. D; PackageVersion: C04-031B; PackageReference: SOT-143-RC4; PackageDescription: 4-Lead Plastic Small Outline Transistor, 2.86 x 1.3 mm Body, 1.92 mm Pitch; Mounting Technology: Surface Mount; ComponentLink1Description: Manufacturer URL; ComponentLink1URL: http://www.microchip.com; ComponentLink2Description: Datasheet; ComponentLink2URL: http://ww1.microchip.com/downloads/en/DeviceDoc/22035D.pdf; ComponentLink3Description: Package Specification; ComponentLink3URL: http://www.microchip.com/stellent/groups/techpub_sg/documents/packagingspec/en012702.pdf; ComponentLink4Description: Product URL; ComponentLink4URL: http://www.microchip.com/TC1270AN
footprint MCHP-SOT-143-RC4_N (SOT143, 4-Leads, Body 2.86x1.3mm, Pitch 1.92mm, IPC Medium Density)
footprint MCHP-SOT-143-RC4_L (SOT143, 4-Leads, Body 2.86x1.3mm, Pitch 1.92mm, IPC High Density)
footprint MCHP-SOT-143-RC4_M (SOT143, 4-Leads, Body 2.86x1.3mm, Pitch 1.92mm, IPC Low Density)
pins: 1 VSS (power) "Ground", 2 ~{RST} (oc) "Reset output (Open-Drain), active-low. Float = VDD > VTRIP, Reset pin is inactive (after Reset Delay Timer completes). L = VDD < VTRIP, Reset pin is active. Goes active (Low) if one of these conditions occurs: 1. If VDD (See Datasheet)", 3 ~{MR} (in) "Manual Reset Input Pin This input allows a push button switch to be directly connected to a TC1270AN device’s M\R\ pin, which can be used to force a system Reset. The input filter ignores noise pulses that occur on the M\R\ (See Datasheet)", 4 VDD (power) "Supply Voltage"

## TC1270ANSBVCTTR
designator U?
Voltage Supervisor with Manual Reset Input, 5-Pin SOT-23, VTRIP:2.85V (min.) / 2.93V (typ.) / 3.00V (max.), Tape and Reel; Manufacturer: Microchip; PartNumber: TC1270ANSBVCTTR; DatasheetVersion: revB, Jun-2007; PackageVersion: revBB, Aug-2009; PackageReference: SOT-23-CT5; PackageDescription: 5-Lead Plastic Small Outline Transistor (CT) [SOT-23]; Mounting Technology: Surface Mount; Code_IPC: SOT23-5; ComponentLink1Description: Manufacturer URL; ComponentLink1URL: http://www.microchip.com/; ComponentLink2Description: Datasheet; ComponentLink2URL: http://ww1.microchip.com/downloads/en/DeviceDoc/22035b.pdf; ComponentLink3Description: Package Specification; ComponentLink3URL: http://www.microchip.com/stellent/groups/techpub_sg/documents/packagingspec/en012702.pdf
footprint SOT-23-CT5_N (SOT23, 5-Leads, Body 2.9x1.6mm, Pitch 0.95mm, Lead Span 2.7mm, IPC Medium Density)
footprint SOT-23-CT5_L (SOT23, 5-Leads, Body 2.9x1.6mm, Pitch 0.95mm, Lead Span 2.7mm, IPC High Density)
footprint SOT-23-CT5_M (SOT23, 5-Leads, Body 2.9x1.6mm, Pitch 0.95mm, Lead Span 2.7mm, IPC Low Density)
pins: 1 VSS (power), 2 ~{RST} (oc), 3 ~{MR} (in), 4 VDD (power), 5 NC

## TC1270ANSVCTTR
designator U?
Voltage Supervisor with Manual Reset Input, 5-Pin SOT-23, VTRIP:2.85V (min.) / 2.93V (typ.) / 3.00V (max.), Tape and Reel; Manufacturer: Microchip; PartNumber: TC1270ANSVCTTR; DatasheetVersion: revB, Jun-2007; PackageVersion: revBB, Aug-2009; PackageReference: SOT-23-CT5; PackageDescription: 5-Lead Plastic Small Outline Transistor (CT) [SOT-23]; Supplier 1: Digi-Key; Supplier Part Number 1: TC1270ANSVCTTR-ND; Supplier 2: Newark; Supplier Part Number 2: 27M0915; Supplier 3: Mouser; Supplier Part Number 3: 579-TC1270ANSVCTTR; Mounting Technology: Surface Mount; Code_IPC: SOT23-5; ComponentLink1Description: Manufacturer URL; ComponentLink1URL: http://www.microchip.com/; ComponentLink2Description: Datasheet; ComponentLink2URL: http://ww1.microchip.com/downloads/en/DeviceDoc/22035b.pdf; ComponentLink3Description: Package Specification; ComponentLink3URL: http://www.microchip.com/stellent/groups/techpub_sg/documents/packagingspec/en012702.pdf
footprint SOT-23-CT5_N (SOT23, 5-Leads, Body 2.9x1.6mm, Pitch 0.95mm, Lead Span 2.7mm, IPC Medium Density)
footprint SOT-23-CT5_L (SOT23, 5-Leads, Body 2.9x1.6mm, Pitch 0.95mm, Lead Span 2.7mm, IPC High Density)
footprint SOT-23-CT5_M (SOT23, 5-Leads, Body 2.9x1.6mm, Pitch 0.95mm, Lead Span 2.7mm, IPC Low Density)
pins: 1 VSS (power), 2 ~{RST} (oc), 3 ~{MR} (in), 4 VDD (power), 5 NC

## TC1270ANSVRCTR
designator U?
Voltage Supervisor with Manual Reset Input, 7 uA Supply Current, Open-Drain Output, 1 to 5.5 V, -40 to 125 degC, 4-pin SOT-143 (RC4), Tape and Reel; Manufacturer: Microchip; PartNumber: TC1270ANSVRCTR; DatasheetVersion: Rev. D; PackageVersion: C04-031B; PackageReference: SOT-143-RC4; PackageDescription: 4-Lead Plastic Small Outline Transistor, 2.86 x 1.3 mm Body, 1.92 mm Pitch; Supplier 1: Digi-Key; Supplier Part Number 1: TC1270ANSVRCTR-ND; Supplier 2: Mouser; Supplier Part Number 2: 579-TC1270ANSVRCTR; Mounting Technology: Surface Mount; ComponentLink1Description: Manufacturer URL; ComponentLink1URL: http://www.microchip.com; ComponentLink2Description: Datasheet; ComponentLink2URL: http://ww1.microchip.com/downloads/en/DeviceDoc/22035D.pdf; ComponentLink3Description: Package Specification; ComponentLink3URL: http://www.microchip.com/stellent/groups/techpub_sg/documents/packagingspec/en012702.pdf; ComponentLink4Description: Product URL; ComponentLink4URL: http://www.microchip.com/TC1270AN
footprint MCHP-SOT-143-RC4_N (SOT143, 4-Leads, Body 2.86x1.3mm, Pitch 1.92mm, IPC Medium Density)
footprint MCHP-SOT-143-RC4_L (SOT143, 4-Leads, Body 2.86x1.3mm, Pitch 1.92mm, IPC High Density)
footprint MCHP-SOT-143-RC4_M (SOT143, 4-Leads, Body 2.86x1.3mm, Pitch 1.92mm, IPC Low Density)
pins: 1 VSS (power) "Ground", 2 ~{RST} (oc) "Reset output (Open-Drain), active-low. Float = VDD > VTRIP, Reset pin is inactive (after Reset Delay Timer completes). L = VDD < VTRIP, Reset pin is active. Goes active (Low) if one of these conditions occurs: 1. If VDD (See Datasheet)", 3 ~{MR} (in) "Manual Reset Input Pin This input allows a push button switch to be directly connected to a TC1270AN device’s M\R\ pin, which can be used to force a system Reset. The input filter ignores noise pulses that occur on the M\R\ (See Datasheet)", 4 VDD (power) "Supply Voltage"

## TC1270ANTAVCTTR
designator U?
Voltage Supervisor with Manual Reset Input, 5-Pin SOT-23, VTRIP:3.00V (min.) / 3.08V (typ.) / 3.15V (max.), Tape and Reel; Manufacturer: Microchip; PartNumber: TC1270ANTAVCTTR; DatasheetVersion: revB, Jun-2007; PackageVersion: revBB, Aug-2009; PackageReference: SOT-23-CT5; PackageDescription: 5-Lead Plastic Small Outline Transistor (CT) [SOT-23]; Mounting Technology: Surface Mount; Code_IPC: SOT23-5; ComponentLink1Description: Manufacturer URL; ComponentLink1URL: http://www.microchip.com/; ComponentLink2Description: Datasheet; ComponentLink2URL: http://ww1.microchip.com/downloads/en/DeviceDoc/22035b.pdf; ComponentLink3Description: Package Specification; ComponentLink3URL: http://www.microchip.com/stellent/groups/techpub_sg/documents/packagingspec/en012702.pdf
footprint SOT-23-CT5_N (SOT23, 5-Leads, Body 2.9x1.6mm, Pitch 0.95mm, Lead Span 2.7mm, IPC Medium Density)
footprint SOT-23-CT5_L (SOT23, 5-Leads, Body 2.9x1.6mm, Pitch 0.95mm, Lead Span 2.7mm, IPC High Density)
footprint SOT-23-CT5_M (SOT23, 5-Leads, Body 2.9x1.6mm, Pitch 0.95mm, Lead Span 2.7mm, IPC Low Density)
pins: 1 VSS (power), 2 ~{RST} (oc), 3 ~{MR} (in), 4 VDD (power), 5 NC

## TC1270ANTBVCTTR
designator U?
Voltage Supervisor with Manual Reset Input, 5-Pin SOT-23, VTRIP:3.00V (min.) / 3.08V (typ.) / 3.15V (max.), Tape and Reel; Manufacturer: Microchip; PartNumber: TC1270ANTBVCTTR; DatasheetVersion: revB, Jun-2007; PackageVersion: revBB, Aug-2009; PackageReference: SOT-23-CT5; PackageDescription: 5-Lead Plastic Small Outline Transistor (CT) [SOT-23]; Mounting Technology: Surface Mount; Code_IPC: SOT23-5; ComponentLink1Description: Manufacturer URL; ComponentLink1URL: http://www.microchip.com/; ComponentLink2Description: Datasheet; ComponentLink2URL: http://ww1.microchip.com/downloads/en/DeviceDoc/22035b.pdf; ComponentLink3Description: Package Specification; ComponentLink3URL: http://www.microchip.com/stellent/groups/techpub_sg/documents/packagingspec/en012702.pdf
footprint SOT-23-CT5_N (SOT23, 5-Leads, Body 2.9x1.6mm, Pitch 0.95mm, Lead Span 2.7mm, IPC Medium Density)
footprint SOT-23-CT5_L (SOT23, 5-Leads, Body 2.9x1.6mm, Pitch 0.95mm, Lead Span 2.7mm, IPC High Density)
footprint SOT-23-CT5_M (SOT23, 5-Leads, Body 2.9x1.6mm, Pitch 0.95mm, Lead Span 2.7mm, IPC Low Density)
pins: 1 VSS (power), 2 ~{RST} (oc), 3 ~{MR} (in), 4 VDD (power), 5 NC

## TC1270ANTBVRCTR
designator U?
Voltage Supervisor with Manual Reset Input, 7 uA Supply Current, Open-Drain Output, 1 to 5.5 V, -40 to 125 degC, 4-pin SOT-143 (RC4), Tape and Reel; Manufacturer: Microchip; PartNumber: TC1270ANTBVRCTR; DatasheetVersion: Rev. D; PackageVersion: C04-031B; PackageReference: SOT-143-RC4; PackageDescription: 4-Lead Plastic Small Outline Transistor, 2.86 x 1.3 mm Body, 1.92 mm Pitch; Mounting Technology: Surface Mount; ComponentLink1Description: Manufacturer URL; ComponentLink1URL: http://www.microchip.com; ComponentLink2Description: Datasheet; ComponentLink2URL: http://ww1.microchip.com/downloads/en/DeviceDoc/22035D.pdf; ComponentLink3Description: Package Specification; ComponentLink3URL: http://www.microchip.com/stellent/groups/techpub_sg/documents/packagingspec/en012702.pdf; ComponentLink4Description: Product URL; ComponentLink4URL: http://www.microchip.com/TC1270AN
footprint MCHP-SOT-143-RC4_N (SOT143, 4-Leads, Body 2.86x1.3mm, Pitch 1.92mm, IPC Medium Density)
footprint MCHP-SOT-143-RC4_L (SOT143, 4-Leads, Body 2.86x1.3mm, Pitch 1.92mm, IPC High Density)
footprint MCHP-SOT-143-RC4_M (SOT143, 4-Leads, Body 2.86x1.3mm, Pitch 1.92mm, IPC Low Density)
pins: 1 VSS (power) "Ground", 2 ~{RST} (oc) "Reset output (Open-Drain), active-low. Float = VDD > VTRIP, Reset pin is inactive (after Reset Delay Timer completes). L = VDD < VTRIP, Reset pin is active. Goes active (Low) if one of these conditions occurs: 1. If VDD (See Datasheet)", 3 ~{MR} (in) "Manual Reset Input Pin This input allows a push button switch to be directly connected to a TC1270AN device’s M\R\ pin, which can be used to force a system Reset. The input filter ignores noise pulses that occur on the M\R\ (See Datasheet)", 4 VDD (power) "Supply Voltage"

## TC1270ANTVCTTR
designator U?
Voltage Supervisor with Manual Reset Input, 5-Pin SOT-23, VTRIP:3.00V (min.) / 3.08V (typ.) / 3.15V (max.), Tape and Reel; Manufacturer: Microchip; PartNumber: TC1270ANTVCTTR; DatasheetVersion: revB, Jun-2007; PackageVersion: revBB, Aug-2009; PackageReference: SOT-23-CT5; PackageDescription: 5-Lead Plastic Small Outline Transistor (CT) [SOT-23]; Supplier 1: Digi-Key; Supplier Part Number 1: TC1270ANTVCTTR-ND; Supplier 2: Mouser; Supplier Part Number 2: 579-TC1270ANTVCTTR; Mounting Technology: Surface Mount; Code_IPC: SOT23-5; ComponentLink1Description: Manufacturer URL; ComponentLink1URL: http://www.microchip.com/; ComponentLink2Description: Datasheet; ComponentLink2URL: http://ww1.microchip.com/downloads/en/DeviceDoc/22035b.pdf; ComponentLink3Description: Package Specification; ComponentLink3URL: http://www.microchip.com/stellent/groups/techpub_sg/documents/packagingspec/en012702.pdf
footprint SOT-23-CT5_N (SOT23, 5-Leads, Body 2.9x1.6mm, Pitch 0.95mm, Lead Span 2.7mm, IPC Medium Density)
footprint SOT-23-CT5_L (SOT23, 5-Leads, Body 2.9x1.6mm, Pitch 0.95mm, Lead Span 2.7mm, IPC High Density)
footprint SOT-23-CT5_M (SOT23, 5-Leads, Body 2.9x1.6mm, Pitch 0.95mm, Lead Span 2.7mm, IPC Low Density)
pins: 1 VSS (power), 2 ~{RST} (oc), 3 ~{MR} (in), 4 VDD (power), 5 NC

## TC1270ANTVRCTR
designator U?
Voltage Supervisor with Manual Reset Input, 7 uA Supply Current, Open-Drain Output, 1 to 5.5 V, -40 to 125 degC, 4-pin SOT-143 (RC4), Tape and Reel; Manufacturer: Microchip; PartNumber: TC1270ANTVRCTR; DatasheetVersion: Rev. D; PackageVersion: C04-031B; PackageReference: SOT-143-RC4; PackageDescription: 4-Lead Plastic Small Outline Transistor, 2.86 x 1.3 mm Body, 1.92 mm Pitch; Supplier 1: Digi-Key; Supplier Part Number 1: TC1270ANTVRCTR-ND; Supplier 2: Mouser; Supplier Part Number 2: 579-TC1270ANTVRCTR; Mounting Technology: Surface Mount; ComponentLink1Description: Manufacturer URL; ComponentLink1URL: http://www.microchip.com; ComponentLink2Description: Datasheet; ComponentLink2URL: http://ww1.microchip.com/downloads/en/DeviceDoc/22035D.pdf; ComponentLink3Description: Package Specification; ComponentLink3URL: http://www.microchip.com/stellent/groups/techpub_sg/documents/packagingspec/en012702.pdf; ComponentLink4Description: Product URL; ComponentLink4URL: http://www.microchip.com/TC1270AN
footprint MCHP-SOT-143-RC4_N (SOT143, 4-Leads, Body 2.86x1.3mm, Pitch 1.92mm, IPC Medium Density)
footprint MCHP-SOT-143-RC4_L (SOT143, 4-Leads, Body 2.86x1.3mm, Pitch 1.92mm, IPC High Density)
footprint MCHP-SOT-143-RC4_M (SOT143, 4-Leads, Body 2.86x1.3mm, Pitch 1.92mm, IPC Low Density)
pins: 1 VSS (power) "Ground", 2 ~{RST} (oc) "Reset output (Open-Drain), active-low. Float = VDD > VTRIP, Reset pin is inactive (after Reset Delay Timer completes). L = VDD < VTRIP, Reset pin is active. Goes active (Low) if one of these conditions occurs: 1. If VDD (See Datasheet)", 3 ~{MR} (in) "Manual Reset Input Pin This input allows a push button switch to be directly connected to a TC1270AN device’s M\R\ pin, which can be used to force a system Reset. The input filter ignores noise pulses that occur on the M\R\ (See Datasheet)", 4 VDD (power) "Supply Voltage"

## TC1270ARAVCTTR
designator U?
Voltage Supervisor with Manual Reset Input, 5-Pin SOT-23, VTRIP:2.55V (min.) / 2.63V (typ.) / 2.70V (max.), Tape and Reel; Manufacturer: Microchip; PartNumber: TC1270ARAVCTTR; DatasheetVersion: revB, Jun-2007; PackageVersion: revBB, Aug-2009; PackageReference: SOT-23-CT5; PackageDescription: 5-Lead Plastic Small Outline Transistor (CT) [SOT-23]; Mounting Technology: Surface Mount; Code_IPC: SOT23-5; ComponentLink1Description: Manufacturer URL; ComponentLink1URL: http://www.microchip.com/; ComponentLink2Description: Datasheet; ComponentLink2URL: http://ww1.microchip.com/downloads/en/DeviceDoc/22035b.pdf; ComponentLink3Description: Package Specification; ComponentLink3URL: http://www.microchip.com/stellent/groups/techpub_sg/documents/packagingspec/en012702.pdf
footprint SOT-23-CT5_N (SOT23, 5-Leads, Body 2.9x1.6mm, Pitch 0.95mm, Lead Span 2.7mm, IPC Medium Density)
footprint SOT-23-CT5_L (SOT23, 5-Leads, Body 2.9x1.6mm, Pitch 0.95mm, Lead Span 2.7mm, IPC High Density)
footprint SOT-23-CT5_M (SOT23, 5-Leads, Body 2.9x1.6mm, Pitch 0.95mm, Lead Span 2.7mm, IPC Low Density)
pins: 1 VSS (power), 2 ~{RST} (out), 3 ~{MR} (in), 4 VDD (power), 5 NC

## TC1270ARAVRCTR
designator U?
Voltage Supervisor with Manual Reset Input, 4-Pin SOT-143, VTRIP:2.55V (min.) / 2.63V (typ.) / 2.70V (max.), Tape and Reel; Manufacturer: Microchip; PartNumber: TC1270ARAVRCTR; DatasheetVersion: revB, Jun-2007; PackageVersion: revBB, Aug-2009; PackageReference: SOT-143-RC4; PackageDescription: 4-Lead Plastic Small Outline Transistor (RC) [SOT-143]; Mounting Technology: Surface Mount; Code_IPC: SOT143; ComponentLink1Description: Manufacturer URL; ComponentLink1URL: http://www.microchip.com/; ComponentLink2Description: Datasheet; ComponentLink2URL: http://ww1.microchip.com/downloads/en/DeviceDoc/22035b.pdf; ComponentLink3Description: Package Specification; ComponentLink3URL: http://www.microchip.com/stellent/groups/techpub_sg/documents/packagingspec/en012702.pdf
footprint SOT-143-RC4_N (SOT143, 4-Leads, Body 2.9x1.3mm, Pitch 1.9mm, Lead Span 2.4mm, IPC Medium Density)
footprint SOT-143-RC4_L (SOT143, 4-Leads, Body 2.9x1.3mm, Pitch 1.9mm, Lead Span 2.4mm, IPC High Density)
footprint SOT-143-RC4_M (SOT143, 4-Leads, Body 2.9x1.3mm, Pitch 1.9mm, Lead Span 2.4mm, IPC Low Density)
pins: 1 VSS (power), 2 ~{RST} (out), 3 ~{MR} (in), 4 VDD (power)

## TC1270ARBVCTTR
designator U?
Voltage Supervisor with Manual Reset Input, 5-Pin SOT-23, VTRIP:2.55V (min.) / 2.63V (typ.) / 2.70V (max.), Tape and Reel; Manufacturer: Microchip; PartNumber: TC1270ARBVCTTR; DatasheetVersion: revB, Jun-2007; PackageVersion: revBB, Aug-2009; PackageReference: SOT-23-CT5; PackageDescription: 5-Lead Plastic Small Outline Transistor (CT) [SOT-23]; Mounting Technology: Surface Mount; Code_IPC: SOT23-5; ComponentLink1Description: Manufacturer URL; ComponentLink1URL: http://www.microchip.com/; ComponentLink2Description: Datasheet; ComponentLink2URL: http://ww1.microchip.com/downloads/en/DeviceDoc/22035b.pdf; ComponentLink3Description: Package Specification; ComponentLink3URL: http://www.microchip.com/stellent/groups/techpub_sg/documents/packagingspec/en012702.pdf
footprint SOT-23-CT5_N (SOT23, 5-Leads, Body 2.9x1.6mm, Pitch 0.95mm, Lead Span 2.7mm, IPC Medium Density)
footprint SOT-23-CT5_L (SOT23, 5-Leads, Body 2.9x1.6mm, Pitch 0.95mm, Lead Span 2.7mm, IPC High Density)
footprint SOT-23-CT5_M (SOT23, 5-Leads, Body 2.9x1.6mm, Pitch 0.95mm, Lead Span 2.7mm, IPC Low Density)
pins: 1 VSS (power), 2 ~{RST} (out), 3 ~{MR} (in), 4 VDD (power), 5 NC

## TC1270ARBVRCTR
designator U?
Voltage Supervisor with Manual Reset Input, 4-Pin SOT-143, VTRIP:2.55V (min.) / 2.63V (typ.) / 2.70V (max.), Tape and Reel; Manufacturer: Microchip; PartNumber: TC1270ARBVRCTR; DatasheetVersion: revB, Jun-2007; PackageVersion: revBB, Aug-2009; PackageReference: SOT-143-RC4; PackageDescription: 4-Lead Plastic Small Outline Transistor (RC) [SOT-143]; Mounting Technology: Surface Mount; Code_IPC: SOT143; ComponentLink1Description: Manufacturer URL; ComponentLink1URL: http://www.microchip.com/; ComponentLink2Description: Datasheet; ComponentLink2URL: http://ww1.microchip.com/downloads/en/DeviceDoc/22035b.pdf; ComponentLink3Description: Package Specification; ComponentLink3URL: http://www.microchip.com/stellent/groups/techpub_sg/documents/packagingspec/en012702.pdf
footprint SOT-143-RC4_N (SOT143, 4-Leads, Body 2.9x1.3mm, Pitch 1.9mm, Lead Span 2.4mm, IPC Medium Density)
footprint SOT-143-RC4_L (SOT143, 4-Leads, Body 2.9x1.3mm, Pitch 1.9mm, Lead Span 2.4mm, IPC High Density)
footprint SOT-143-RC4_M (SOT143, 4-Leads, Body 2.9x1.3mm, Pitch 1.9mm, Lead Span 2.4mm, IPC Low Density)
pins: 1 VSS (power), 2 ~{RST} (out), 3 ~{MR} (in), 4 VDD (power)

## TC1270ARVCTTR
designator U?
Voltage Supervisor with Manual Reset Input, 5-Pin SOT-23, VTRIP:2.55V (min.) / 2.63V (typ.) / 2.70V (max.), Tape and Reel; Manufacturer: Microchip; PartNumber: TC1270ARVCTTR; DatasheetVersion: revB, Jun-2007; PackageVersion: revBB, Aug-2009; PackageReference: SOT-23-CT5; PackageDescription: 5-Lead Plastic Small Outline Transistor (CT) [SOT-23]; Supplier 1: Digi-Key; Supplier Part Number 1: TC1270ARVCTTR-ND; Supplier 2: Mouser; Supplier Part Number 2: 579-TC1270ARVCTTR; Mounting Technology: Surface Mount; Code_IPC: SOT23-5; ComponentLink1Description: Manufacturer URL; ComponentLink1URL: http://www.microchip.com/; ComponentLink2Description: Datasheet; ComponentLink2URL: http://ww1.microchip.com/downloads/en/DeviceDoc/22035b.pdf; ComponentLink3Description: Package Specification; ComponentLink3URL: http://www.microchip.com/stellent/groups/techpub_sg/documents/packagingspec/en012702.pdf
footprint SOT-23-CT5_N (SOT23, 5-Leads, Body 2.9x1.6mm, Pitch 0.95mm, Lead Span 2.7mm, IPC Medium Density)
footprint SOT-23-CT5_L (SOT23, 5-Leads, Body 2.9x1.6mm, Pitch 0.95mm, Lead Span 2.7mm, IPC High Density)
footprint SOT-23-CT5_M (SOT23, 5-Leads, Body 2.9x1.6mm, Pitch 0.95mm, Lead Span 2.7mm, IPC Low Density)
pins: 1 VSS (power), 2 ~{RST} (out), 3 ~{MR} (in), 4 VDD (power), 5 NC